# Altium footprint library Rich Footprints.PcbLib: 155 footprints (part 6 of 10)
Each footprint in its own frame and in the unit in brackets; x right, y up, seen from the top. Pads: shape width x height; smd on the part's side, far side on the other; paste and mask are expansions set on the pad; w line width, h text height; cw(c..) or ccw(c..) is an arc to the next point about the centre after c.
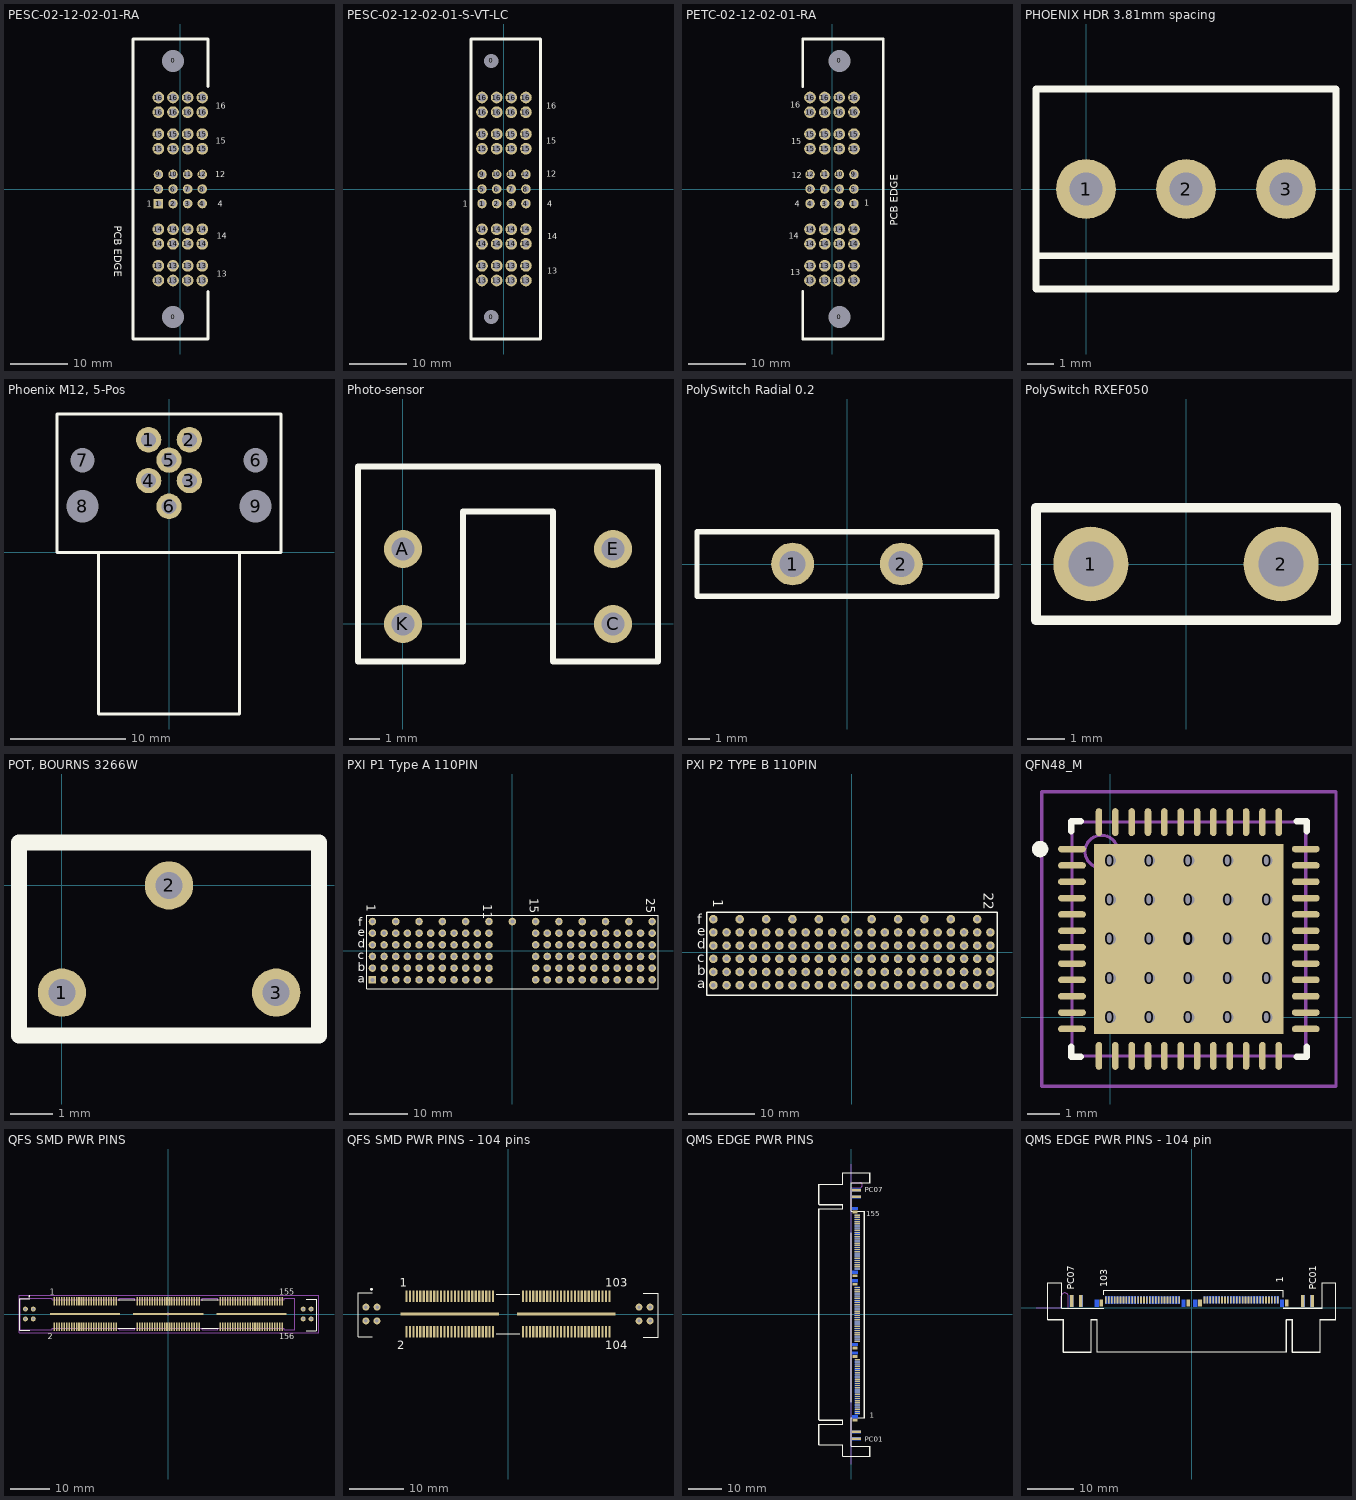
[diagram p5: the footprints below, top view; thin cyan lines are the x and y axes]

## PESC-02-12-02-01-RA [mil] "Samtec Female Sockets, PWR(4), Signal(12), Right Angle"
height 492.13
pads (46):
  round 59.06 hole 150 unplated: 0(-50,-875) 0(-50,875)
  rect 65x65 hole 40: 1(-150,-100)
  round 65 hole 40: 2(-50,-100) 3(50,-100) 4(150,-100) 5(-150,0) 6(-50,0) 7(50,0) 8(150,0) 9(-150,100) 10(-50,100) 11(50,100) 12(150,100)
  round 80 hole 52: 13(-150,-625) 13(-150,-525) 13(-50,-625) 13(-50,-525) 13(50,-625) 13(50,-525) 13(150,-625) 13(150,-525) 14(-150,-375) 14(-150,-275) 14(-50,-375) 14(-50,-275) 14(50,-375) 14(50,-275) 14(150,-375) 14(150,-275) 15(-150,275) 15(-150,375) 15(-50,275) 15(-50,375) 15(50,275) 15(50,375) 15(150,275) 15(150,375) 16(-150,525) 16(-150,625) 16(-50,525) 16(-50,625) 16(50,525) 16(50,625) 16(150,525) 16(150,625)
Top Overlay:
  lines w20: 188,-700 188,-1025 -324,-1025 -324,0 -324,1025 188,1025 188,700
  text "PCB EDGE" at -450,-250 h50
  text "1" at -230,-120 h40
  text "13" at 248,-600 h40
  text "16" at 241,550 h40
  text "4" at 255,-120 h40
  text "12" at 240,80 h40
  text "14" at 248,-340 h40
  text "15" at 241,310 h40

## PESC-02-12-02-01-S-VT-LC [mil] "SAMTEC FEM SOCKETS, PWR(4), SIGNAL(12), VERT MOUNT"
height 497.64
pads (46):
  round 59.06 hole 98 unplated: 0(-87,-875) 0(-87,875)
  round 65 hole 40: 1(-150,-100) 2(-50,-100) 3(50,-100) 4(150,-100) 5(-150,0) 6(-50,0) 7(50,0) 8(150,0) 9(-150,100) 10(-50,100) 11(50,100) 12(150,100)
  round 80 hole 52: 13(-150,-625) 13(-150,-525) 13(-50,-625) 13(-50,-525) 13(50,-625) 13(50,-525) 13(150,-625) 13(150,-525) 14(-150,-375) 14(-150,-275) 14(-50,-375) 14(-50,-275) 14(50,-375) 14(50,-275) 14(150,-375) 14(150,-275) 15(-150,275) 15(-150,375) 15(-50,275) 15(-50,375) 15(50,275) 15(50,375) 15(150,275) 15(150,375) 16(-150,525) 16(-150,625) 16(-50,525) 16(-50,625) 16(50,525) 16(50,625) 16(150,525) 16(150,625)
Top Overlay:
  lines w20: -225,-1025 250,-1025 250,1025 -225,1025 -225,0 -225,-1025
  text "16" at 290,550 h40
  text "1" at -280,-120 h40
  text "13" at 295,-580 h40
  text "4" at 295,-120 h40
  text "12" at 290,85 h40
  text "14" at 295,-345 h40
  text "15" at 290,310 h40

## PETC-02-12-02-01-RA [mil] "Samtec Male Pins, PWR(4), Signal(12), Right Angle"
height 492.13
pads (46):
  round 59.06 hole 150 unplated: 0(50,-875) 0(50,875)
  round 65 hole 40: 1(150,-100) 2(50,-100) 3(-50,-100) 4(-150,-100) 5(150,0) 6(50,0) 7(-50,0) 8(-150,0) 9(150,100) 10(50,100) 11(-50,100) 12(-150,100)
  round 80 hole 52: 13(-150,-625) 13(-150,-525) 13(-50,-625) 13(-50,-525) 13(50,-625) 13(50,-525) 13(150,-625) 13(150,-525) 14(-150,-375) 14(-150,-275) 14(-50,-375) 14(-50,-275) 14(50,-375) 14(50,-275) 14(150,-375) 14(150,-275) 15(-150,275) 15(-150,375) 15(-50,275) 15(-50,375) 15(50,275) 15(50,375) 15(150,275) 15(150,375) 16(-150,525) 16(-150,625) 16(-50,525) 16(-50,625) 16(50,525) 16(50,625) 16(150,525) 16(150,625)
Top Overlay:
  lines w20: -200,-700 -200,-1025 350,-1025 350,0 350,1025 -200,1025 -200,700
  text "1" at 220,-115 h40
  text "PCB EDGE" at 450,-250 h50
  text "13" at -285,-590 h40
  text "16" at -285,555 h40
  text "4" at -255,-120 h40
  text "12" at -275,75 h40
  text "14" at -295,-340 h40
  text "15" at -280,305 h40

## PHOENIX HDR 3.81mm spacing [mil]
pads (3):
  round 90 hole 50: 1(0,0) 2(150,0) 3(300,0)
Top Overlay:
  lines w9.84: -75,-100 375,-100 ; -75,-150 -75,0 -75,150 375,150 375,-150 -75,-150

## Phoenix M12, 5-Pos [mm] "PCB Mount Phoenix p/n 1534630"
pads (10):
  round 2.2 hole 1.3: 1(-1.767,9.767) 2(1.767,9.767) 3(1.767,6.232) 4(-1.767,6.232) 5(0,8) 6(0,4)
  round 2 hole 2.1 unplated: 6(7.5,8) 7(-7.5,8)
  round 2 hole 2.8 unplated: 8(-7.5,4) 9(7.5,4)
Top Overlay:
  lines w0.254: -6.1,0 -6.1,-14 6.1,-14 6.1,0 ; -9.7,0 -9.7,12 -0.6,12 9.7,12 9.7,0 0,0 -9.7,0

## Photo-sensor [mm] "Omron EE-SX1046"
pads (4):
  round 1.27 hole 0.762: A(0,2.5) C(7,0) E(7,2.5) K(0,0)
Top Overlay:
  lines w0.2: -1.5,-1.25 -1.5,5.25 8.5,5.25 8.5,-1.25 7,-1.25 5,-1.25 5,3.75 2,3.75 2,-1.25 -1.5,-1.25

## PolySwitch Radial 0.2 [mm] "PolySwitch footprint"
height 19
pads (2):
  round 2 hole 1.2: 1(-2.54,0) 2(2.54,0)
Top Overlay:
  lines w0.254: -7,-1.5 -7,1.5 0,1.5 7,1.5 7,-1.5 -7,-1.5

## PolySwitch RXEF050 [mm] "PolySwitch footprint"
height 19
pads (2):
  round 2 hole 1.2: 1(-2.54,0) 2(2.54,0)
Top Overlay:
  lines w0.254: -4,-1.5 -4,1.5 0,1.5 4,1.5 4,-1.5 -4,-1.5

## POT, BOURNS 3266W [mil]
pads (3):
  round 45 hole 25: 1(0,-100) 2(100,0) 3(200,-100)
Top Overlay:
  lines w15: -40,-140 -40,40 -30,40 240,40 240,-140 -40,-140

## PXI P1 Type A 110PIN [mm] "Connector; CompactPCI; 110 Position; Right Angle"
height 8.13
pads (123):
  rect 1.3x1.3 hole 0.7: A1(-24,-5)
  round 1.3 hole 0.7: A2(-22,-5) A3(-20,-5) A4(-18,-5) A5(-16,-5) A6(-14,-5) A7(-12,-5) A8(-10,-5) A9(-8,-5) A10(-6,-5) A11(-4,-5) A15(4,-5) A16(6,-5) A17(8,-5) A18(10,-5) A19(12,-5) A20(14,-5) A21(16,-5) A22(18,-5) A23(20,-5) A24(22,-5) A25(24,-5) B1(-24,-3) B2(-22,-3) B3(-20,-3) B4(-18,-3) B5(-16,-3) B6(-14,-3) B7(-12,-3) B8(-10,-3) B9(-8,-3) B10(-6,-3) B11(-4,-3) B15(4,-3) B16(6,-3) B17(8,-3) B18(10,-3) B19(12,-3) B20(14,-3) B21(16,-3) B22(18,-3) B23(20,-3) B24(22,-3) B25(24,-3) C1(-24,-1) C2(-22,-1) C3(-20,-1) C4(-18,-1) C5(-16,-1) C6(-14,-1) C7(-12,-1) C8(-10,-1) C9(-8,-1) C10(-6,-1) C11(-4,-1) C15(4,-1) C16(6,-1) C17(8,-1) C18(10,-1) C19(12,-1) C20(14,-1) C21(16,-1) C22(18,-1) C23(20,-1) C24(22,-1) C25(24,-1) D1(-24,1) D2(-22,1) D3(-20,1) D4(-18,1) D5(-16,1) D6(-14,1) D7(-12,1) D8(-10,1) D9(-8,1) D10(-6,1) D11(-4,1) D15(4,1) D16(6,1) D17(8,1) D18(10,1) D19(12,1) D20(14,1) D21(16,1) D22(18,1) D23(20,1) D24(22,1) D25(24,1) E1(-24,3) E2(-22,3) E3(-20,3) E4(-18,3) E5(-16,3) E6(-14,3) E7(-12,3) E8(-10,3) E9(-8,3) E10(-6,3) E11(-4,3) E15(4,3) E16(6,3) E17(8,3) E18(10,3) E19(12,3) E20(14,3) E21(16,3) E22(18,3) E23(20,3) E24(22,3) E25(24,3) F1(-24,5) F3(-20,5) F5(-16,5) F7(-12,5) F9(-8,5) F11(-4,5) F13(0,5) F15(4,5) F17(8,5) F19(12,5) F21(16,5) F23(20,5) F25(24,5)
Top Overlay:
  lines w0.2: -25,-6.5 -25,6.1 25,6.1 25,-6.5 -25,-6.5
  text "11" at -5,8 h1.5
  text "1" at -25,8 h1.5
  text "f" at -26.475,4.225 h1.5
  text "a" at -26.475,-5.5 h1.5
  text "b" at -26.475,-3.5 h1.5
  text "c" at -26.475,-1.5 h1.5
  text "d" at -26.475,0.5 h1.5
  text "e" at -26.475,2.5 h1.5
  text "15" at 3,9 h1.5
  text "25" at 23,9 h1.5

## PXI P2 TYPE B 110PIN [mm] "Connector; CompactPCI; 110 Position; Right Angle"
height 8.13
pads (121):
  round 1.3 hole 0.7: A1(-21,-5) A2(-19,-5) A3(-17,-5) A4(-15,-5) A5(-13,-5) A6(-11,-5) A7(-9,-5) A8(-7,-5) A9(-5,-5) A10(-3,-5) A11(-1,-5) A12(1,-5) A13(3,-5) A14(5,-5) A15(7,-5) A16(9,-5) A17(11,-5) A18(13,-5) A19(15,-5) A20(17,-5) A21(19,-5) A22(21,-5) B1(-21,-3) B2(-19,-3) B3(-17,-3) B4(-15,-3) B5(-13,-3) B6(-11,-3) B7(-9,-3) B8(-7,-3) B9(-5,-3) B10(-3,-3) B11(-1,-3) B12(1,-3) B13(3,-3) B14(5,-3) B15(7,-3) B16(9,-3) B17(11,-3) B18(13,-3) B19(15,-3) B20(17,-3) B21(19,-3) B22(21,-3) C1(-21,-1) C2(-19,-1) C3(-17,-1) C4(-15,-1) C5(-13,-1) C6(-11,-1) C7(-9,-1) C8(-7,-1) C9(-5,-1) C10(-3,-1) C11(-1,-1) C12(1,-1) C13(3,-1) C14(5,-1) C15(7,-1) C16(9,-1) C17(11,-1) C18(13,-1) C19(15,-1) C20(17,-1) C21(19,-1) C22(21,-1) D1(-21,1) D2(-19,1) D3(-17,1) D4(-15,1) D5(-13,1) D6(-11,1) D7(-9,1) D8(-7,1) D9(-5,1) D10(-3,1) D11(-1,1) D12(1,1) D13(3,1) D14(5,1) D15(7,1) D16(9,1) D17(11,1) D18(13,1) D19(15,1) D20(17,1) D21(19,1) D22(21,1) E1(-21,3) E2(-19,3) E3(-17,3) E4(-15,3) E5(-13,3) E6(-11,3) E7(-9,3) E8(-7,3) E9(-5,3) E10(-3,3) E11(-1,3) E12(1,3) E13(3,3) E14(5,3) E15(7,3) E16(9,3) E17(11,3) E18(13,3) E19(15,3) E20(17,3) E21(19,3) E22(21,3) F1(-21,5) F3(-17,5) F5(-13,5) F7(-9,5) F9(-5,5) F11(-1,5) F13(3,5) F15(7,5) F17(11,5) F19(15,5) F21(19,5)
Top Overlay:
  lines w0.2: -22,-6.5 -22,6.05 22,6.05 22,-6.5 -22,-6.5
  text "f" at -23.475,4.225 h1.5
  text "a" at -23.475,-5.5 h1.5
  text "b" at -23.475,-3.5 h1.5
  text "c" at -23.475,-1.5 h1.5
  text "d" at -23.475,0.5 h1.5
  text "e" at -23.475,2.5 h1.5
  text "22" at 20,9 h1.5
  text "1" at -21,8 h1.5

## QFN48_M [mm] "QFN, 48-Leads, Body 7x7mm, Pitch 0.5mm, IPC Low Density"
height 0.9
pads (74):
  round 0.66 hole 0.33 mask+0: 0(0,0)
  round 0.66 hole 0.33: 0(0,1.2) 0(0,3.6) 0(0,4.8) 0(1.2,0) 0(1.2,1.2) 0(1.2,2.4) 0(1.2,4.8) 0(2.4,0) 0(2.4,1.2) 0(2.4,2.4) 0(2.4,3.6) 0(2.4,4.8) 0(3.6,0) 0(3.6,1.2) 0(3.6,2.4) 0(3.6,3.6) 0(3.6,4.8) 0(4.8,0) 0(4.8,1.2) 0(4.8,2.4) 0(4.8,3.6) 0(4.8,4.8)
  round 0.66 hole 0.33 paste+0 mask+0: 0(0,2.4) 0(1.2,3.6)
  rect 5.8x5.8 smd: 0(2.4,2.4)
  oval 0.85x0.2 smd: 1(-1.175,5.15) 2(-1.175,4.65) 3(-1.175,4.15) 4(-1.175,3.65) 5(-1.175,3.15) 6(-1.175,2.65) 7(-1.175,2.15) 8(-1.175,1.65) 9(-1.175,1.15) 10(-1.175,0.65) 11(-1.175,0.15) 12(-1.175,-0.35) 25(5.975,-0.35) 26(5.975,0.15) 27(5.975,0.65) 28(5.975,1.15) 29(5.975,1.65) 30(5.975,2.15) 31(5.975,2.65) 32(5.975,3.15) 33(5.975,3.65) 34(5.975,4.15) 35(5.975,4.65) 36(5.975,5.15)
  oval 0.2x0.85 smd: 13(-0.35,-1.175) 14(0.15,-1.175) 15(0.65,-1.175) 16(1.15,-1.175) 17(1.65,-1.175) 18(2.15,-1.175) 19(2.65,-1.175) 20(3.15,-1.175) 21(3.65,-1.175) 22(4.15,-1.175) 23(4.65,-1.175) 24(5.15,-1.175) 37(5.15,5.975) 38(4.65,5.975) 39(4.15,5.975) 40(3.65,5.975) 41(3.15,5.975) 42(2.65,5.975) 43(2.15,5.975) 44(1.65,5.975) 45(1.15,5.975) 46(0.65,5.975) 47(0.15,5.975) 48(-0.35,5.975)
Top Overlay:
  circle w0.25: c-2.15,5.15 r0.125
  lines w0.2: -1.2,-0.9 -1.2,-1.2 -0.9,-1.2 ; -1.2,5.7 -1.2,6 -0.9,6 ; 5.7,-1.2 6,-1.2 6,-0.9 ; 5.7,6 6,6 6,5.7
Mechanical 13:
  circle w0.1: c-0.275,5.075 r0.5
  lines w0.1: -1.175,-1.175 -1.175,5.975 5.975,5.975 5.975,-1.175 -1.175,-1.175
Mechanical 15:
  lines w0.1: 1.9,2.4 2.9,2.4 ; 2.4,1.9 2.4,2.9 ; -2.1,-2.1 -2.1,6.9 6.9,6.9 6.9,-2.1 -2.1,-2.1
3D body: height 0.9, standoff 0, extent -1.175,-1.175 5.975,5.975

## QFS SMD PWR PINS [mm] "78 pos (156 pin) + 8 pwr pins"
height 7.06
pads (167):
  rect 0.4x2.15 smd: 1(-29.28,3.24) 2(-29.28,-3.24) 3(-28.645,3.24) 4(-28.645,-3.24) 5(-28.01,3.24) 6(-28.01,-3.24) 7(-27.375,3.24) 8(-27.375,-3.24) 9(-26.74,3.24) 10(-26.74,-3.24) 11(-26.105,3.24) 12(-26.105,-3.24) 13(-25.47,3.24) 14(-25.47,-3.24) 15(-24.835,3.24) 16(-24.835,-3.24) 17(-24.2,3.24) 18(-24.2,-3.24) 19(-23.565,3.24) 20(-23.565,-3.24) 21(-22.93,3.24) 22(-22.93,-3.24) 23(-22.295,3.24) 24(-22.295,-3.24) 25(-21.66,3.24) 26(-21.66,-3.24) 27(-21.025,3.24) 28(-21.025,-3.24) 29(-20.39,3.24) 30(-20.39,-3.24) 31(-19.755,3.24) 32(-19.755,-3.24) 33(-19.12,3.24) 34(-19.12,-3.24) 35(-18.485,3.24) 36(-18.485,-3.24) 37(-17.85,3.24) 38(-17.85,-3.24) 39(-17.215,3.24) 40(-17.215,-3.24) 41(-16.58,3.24) 42(-16.58,-3.24) 43(-15.945,3.24) 44(-15.945,-3.24) 45(-15.31,3.24) 46(-15.31,-3.24) 47(-14.675,3.24) 48(-14.675,-3.24) 49(-14.04,3.24) 50(-14.04,-3.24) 51(-13.405,3.24) 52(-13.405,-3.24) 53(-7.94,3.24) 54(-7.94,-3.24) 55(-7.305,3.24) 56(-7.305,-3.24) 57(-6.67,3.24) 58(-6.67,-3.24) 59(-6.035,3.24) 60(-6.035,-3.24) 61(-5.4,3.24) 62(-5.4,-3.24) 63(-4.765,3.24) 64(-4.765,-3.24) 65(-4.13,3.24) 66(-4.13,-3.24) 67(-3.495,3.24) 68(-3.495,-3.24) 69(-2.86,3.24) 70(-2.86,-3.24) 71(-2.225,3.24) 72(-2.225,-3.24) 73(-1.59,3.24) 74(-1.59,-3.24) 75(-0.955,3.24) 76(-0.955,-3.24) 77(-0.32,3.24) 78(-0.32,-3.24) 79(0.315,3.24) 80(0.315,-3.24) 81(0.95,3.24) 82(0.95,-3.24) 83(1.585,3.24) 84(1.585,-3.24) 85(2.22,3.24) 86(2.22,-3.24) 87(2.855,3.24) 88(2.855,-3.24) 89(3.49,3.24) 90(3.49,-3.24) 91(4.125,3.24) 92(4.125,-3.24) 93(4.76,3.24) 94(4.76,-3.24) 95(5.395,3.24) 96(5.395,-3.24) 97(6.03,3.24) 98(6.03,-3.24) 99(6.665,3.24) 100(6.665,-3.24) 101(7.3,3.24) 102(7.3,-3.24) 103(7.935,3.24) 104(7.935,-3.24) 105(13.4,3.24) 106(13.4,-3.24) 107(14.035,3.24) 108(14.035,-3.24) 109(14.67,3.24) 110(14.67,-3.24) 111(15.305,3.24) 112(15.305,-3.24) 113(15.94,3.24) 114(15.94,-3.24) 115(16.575,3.24) 116(16.575,-3.24) 117(17.21,3.24) 118(17.21,-3.24) 119(17.845,3.24) 120(17.845,-3.24) 121(18.48,3.24) 122(18.48,-3.24) 123(19.115,3.24) 124(19.115,-3.24) 125(19.75,3.24) 126(19.75,-3.24) 127(20.385,3.24) 128(20.385,-3.24) 129(21.02,3.24) 130(21.02,-3.24) 131(21.655,3.24) 132(21.655,-3.24) 133(22.29,3.24) 134(22.29,-3.24) 135(22.925,3.24) 136(22.925,-3.24) 137(23.56,3.24) 138(23.56,-3.24) 139(24.195,3.24) 140(24.195,-3.24) 141(24.83,3.24) 142(24.83,-3.24) 143(25.465,3.24) 144(25.465,-3.24) 145(26.1,3.24) 146(26.1,-3.24) 147(26.735,3.24) 148(26.735,-3.24) 149(27.37,3.24) 150(27.37,-3.24) 151(28.005,3.24) 152(28.005,-3.24) 153(28.64,3.24) 154(28.64,-3.24) 155(29.275,3.24) 156(29.275,-3.24)
  rect 18x0.5 smd: 157(-21.34,0) 158(0,0) 159(21.34,0)
  round 1.27 hole 0.635 mask+0: PC01(-36.703,1.27) PC02(-36.703,-1.27) PC03(-34.671,1.27) PC04(-34.684,-1.27) PC05(34.671,1.27) PC06(34.671,-1.27) PC07(36.703,1.27) PC08(36.703,-1.27)
Top Overlay:
  circle w0.25: c-35.71,4.521 r0.125
  lines w0.2: -38.16,3.937 -35.56,3.937 ; -38.135,3.92 -38.135,1.895 -38.135,-2.155 -38.135,-4.18 -35.535,-4.18 ; -12.8,-3.65 -8.55,-3.65 ; -12.8,3.65 -8.55,3.65 ; 8.5,3.65 12.8,3.65 ; 8.55,-3.65 12.8,-3.65 ; 35.449,3.835 38.049,3.835 ; 35.475,-4.267 38.075,-4.267 ; 38.151,-4.315 38.151,3.785
  text "1" at -30.5,5 h1.52
  text "2" at -31,-6.5 h1.52
  text "156" at 28.5,-6.5 h1.52
  text "155" at 28.5,5 h1.52
Mechanical 12:
  lines w0.001: -38.075,-4.05 -29.75,-4.05 -29.75,-3.65 -12.65,-3.65 -12.65,-4.05 -8.65,-4.05 -8.65,-3.65 8.7,-3.65 8.7,-4.05 12.7,-4.05 12.7,-3.65 29.75,-3.65 29.75,-4.05 32.5,-4.05 32.5,4.05 29.75,4.05 29.75,3.65 12.7,3.65 12.7,4.05 8.7,4.05 8.7,3.65 -8.65,3.65 -8.65,4.05 -12.65,4.05 -12.65,3.65 -29.75,3.65 -29.75,4.05 -38.075,4.05 -38.075,-4.05
Mechanical 15:
  lines w0.05: -0.5,0 0.5,0 ; 0,-0.5 0,0.5 ; -38.354,-4.85 38.735,-4.85 38.735,4.8 -38.354,4.8 -38.354,-4.85

## QFS SMD PWR PINS - 104 pins [mm] "52 pos (104pin) + 8 pwr pins"
height 7.06
pads (114):
  rect 0.4x2.15 smd: 1(-18.612,3.24) 2(-18.612,-3.24) 3(-17.977,3.24) 4(-17.977,-3.24) 5(-17.342,3.24) 6(-17.342,-3.24) 7(-16.707,3.24) 8(-16.707,-3.24) 9(-16.072,3.24) 10(-16.072,-3.24) 11(-15.437,3.24) 12(-15.437,-3.24) 13(-14.802,3.24) 14(-14.802,-3.24) 15(-14.167,3.24) 16(-14.167,-3.24) 17(-13.532,3.24) 18(-13.532,-3.24) 19(-12.897,3.24) 20(-12.897,-3.24) 21(-12.262,3.24) 22(-12.262,-3.24) 23(-11.627,3.24) 24(-11.627,-3.24) 25(-10.992,3.24) 26(-10.992,-3.24) 27(-10.357,3.24) 28(-10.357,-3.24) 29(-9.722,3.24) 30(-9.722,-3.24) 31(-9.087,3.24) 32(-9.087,-3.24) 33(-8.452,3.24) 34(-8.452,-3.24) 35(-7.817,3.24) 36(-7.817,-3.24) 37(-7.182,3.24) 38(-7.182,-3.24) 39(-6.547,3.24) 40(-6.547,-3.24) 41(-5.912,3.24) 42(-5.912,-3.24) 43(-5.277,3.24) 44(-5.277,-3.24) 45(-4.642,3.24) 46(-4.642,-3.24) 47(-4.007,3.24) 48(-4.007,-3.24) 49(-3.372,3.24) 50(-3.372,-3.24) 51(-2.737,3.24) 52(-2.737,-3.24) 53(2.728,3.24) 54(2.728,-3.24) 55(3.363,3.24) 56(3.363,-3.24) 57(3.998,3.24) 58(3.998,-3.24) 59(4.633,3.24) 60(4.633,-3.24) 61(5.268,3.24) 62(5.268,-3.24) 63(5.903,3.24) 64(5.903,-3.24) 65(6.538,3.24) 66(6.538,-3.24) 67(7.173,3.24) 68(7.173,-3.24) 69(7.808,3.24) 70(7.808,-3.24) 71(8.443,3.24) 72(8.443,-3.24) 73(9.078,3.24) 74(9.078,-3.24) 75(9.713,3.24) 76(9.713,-3.24) 77(10.348,3.24) 78(10.348,-3.24) 79(10.983,3.24) 80(10.983,-3.24) 81(11.618,3.24) 82(11.618,-3.24) 83(12.253,3.24) 84(12.253,-3.24) 85(12.888,3.24) 86(12.888,-3.24) 87(13.523,3.24) 88(13.523,-3.24) 89(14.158,3.24) 90(14.158,-3.24) 91(14.793,3.24) 92(14.793,-3.24) 93(15.428,3.24) 94(15.428,-3.24) 95(16.063,3.24) 96(16.063,-3.24) 97(16.698,3.24) 98(16.698,-3.24) 99(17.333,3.24) 100(17.333,-3.24) 101(17.968,3.24) 102(17.968,-3.24) 103(18.603,3.24) 104(18.603,-3.24)
  rect 18x0.5 smd: 105(-10.672,0) 106(10.668,0)
  round 1.27 hole 0.635 mask+0: PC01(-26.035,1.27) PC02(-26.035,-1.27) PC03(-24.003,1.27) PC04(-24.016,-1.27) PC05(24.003,1.27) PC06(24.003,-1.27) PC07(26.035,1.27) PC08(26.035,-1.27)
Top Overlay:
  circle w0.25: c-25.042,4.521 r0.125
  lines w0.2: -27.492,3.937 -24.892,3.937 ; -27.467,3.92 -27.467,1.895 -27.467,-2.155 -27.467,-4.18 -24.867,-4.18 ; -2.132,-3.65 2.118,-3.65 ; -2.132,3.65 2.118,3.65 ; 24.781,3.835 27.381,3.835 ; 24.807,-4.267 27.407,-4.267 ; 27.483,-4.315 27.483,3.785
  text "103" at 17.832,5 h1.52
  text "104" at 17.832,-6.5 h1.52
  text "2" at -20.332,-6.5 h1.52
  text "1" at -19.832,5 h1.52

## QMS EDGE PWR PINS [mil] "78 pos (156 pin) + 8 pwr pins"
height 277.95
pads (176):
  rect 60x14 smd: 1(69.15,-1152.45) 3(69.15,-1127.45) 5(69.15,-1102.45) 7(69.15,-1077.45) 9(69.15,-1052.45) 11(69.15,-1027.45) 13(69.15,-1002.45) 15(69.15,-977.45) 17(69.15,-952.45) 19(69.15,-927.45) 21(69.15,-902.45) 23(69.15,-877.45) 25(69.15,-852.45) 27(69.15,-827.45) 29(69.15,-802.45) 31(69.15,-777.45) 33(69.15,-752.45) 35(69.15,-727.45) 37(69.15,-702.45) 39(69.15,-677.45) 41(69.15,-652.45) 43(69.15,-627.45) 45(69.15,-602.45) 47(69.15,-577.45) 49(69.15,-552.45) 51(69.15,-527.45) 53(68.09,-312.11) 55(68.09,-287.11) 57(68.09,-262.11) 59(68.09,-237.11) 61(68.09,-212.11) 63(68.09,-187.11) 65(68.09,-162.11) 67(68.09,-137.11) 69(68.09,-112.11) 71(68.09,-87.11) 73(68.09,-62.11) 75(68.09,-37.11) 77(68.09,-12.11) 79(68.09,12.89) 81(68.09,37.89) 83(68.09,62.89) 85(68.09,87.89) 87(68.09,112.89) 89(68.09,137.89) 91(68.09,162.89) 93(68.09,187.89) 95(68.09,212.89) 97(68.09,237.89) 99(68.09,262.89) 101(68.09,287.89) 103(68.09,312.89) 105(68.09,528.05) 107(68.09,553.05) 109(68.09,578.05) 111(68.09,603.05) 113(68.09,628.05) 115(68.09,653.05) 117(68.09,678.05) 119(68.09,703.05) 121(68.09,728.05) 123(68.09,753.05) 125(68.09,778.05) 127(68.09,803.05) 129(68.09,828.05) 131(68.09,853.05) 133(68.09,878.05) 135(68.09,903.05) 137(68.09,928.05) 139(68.09,953.05) 141(68.09,978.05) 143(68.09,1003.05) 145(68.09,1028.05) 147(68.09,1053.05) 149(68.09,1078.05) 151(68.09,1103.05) 153(68.09,1128.05) 155(68.09,1153.05)
  rect 60x14 smd far side: 2(69.15,-1152.45) 4(69.15,-1127.45) 6(69.15,-1102.45) 8(69.15,-1077.45) 10(69.15,-1052.45) 12(69.15,-1027.45) 14(69.15,-1002.45) 16(69.15,-977.45) 18(69.15,-952.45) 20(69.15,-927.45) 22(69.15,-902.45) 24(69.15,-877.45) 26(69.15,-852.45) 28(69.15,-827.45) 30(69.15,-802.45) 32(69.15,-777.45) 34(69.15,-752.45) 36(69.15,-727.45) 38(69.15,-702.45) 40(69.15,-677.45) 42(69.15,-652.45) 44(69.15,-627.45) 46(69.15,-602.45) 48(69.15,-577.45) 50(69.15,-552.45) 52(69.15,-527.45) 54(68.09,-312.11) 56(68.09,-287.11) 58(68.09,-262.11) 60(68.09,-237.11) 62(68.09,-212.11) 64(68.09,-187.11) 66(68.09,-162.11) 68(68.09,-137.11) 70(68.09,-112.11) 72(68.09,-87.11) 74(68.09,-62.11) 76(68.09,-37.11) 78(68.09,-12.11) 80(68.09,12.89) 82(68.09,37.89) 84(68.09,62.89) 86(68.09,87.89) 88(68.09,112.89) 90(68.09,137.89) 92(68.09,162.89) 94(68.09,187.89) 96(68.09,212.89) 98(68.09,237.89) 100(68.09,262.89) 102(68.09,287.89) 104(68.09,312.89) 106(68.09,528.05) 108(68.09,553.05) 110(68.09,578.05) 112(68.09,603.05) 114(68.09,628.05) 116(68.09,653.05) 118(68.09,678.05) 120(68.09,703.05) 122(68.09,728.05) 124(68.09,753.05) 126(68.09,778.05) 128(68.09,803.05) 130(68.09,828.05) 132(68.09,853.05) 134(68.09,878.05) 136(68.09,903.05) 138(68.09,928.05) 140(68.09,953.05) 142(68.09,978.05) 144(68.09,1003.05) 146(68.09,1028.05) 148(68.09,1053.05) 150(68.09,1078.05) 152(68.09,1103.05) 154(68.09,1128.05) 156(68.09,1153.05)
  rect 60x31 smd: 157(41.09,-1229.45) 159(41.09,-489.45) 161(41.09,-389.45) 163(41.09,350.55) 165(41.09,450.55) 167(41.09,1190.55)
  rect 60x31 smd far side: 158(41.09,-1189.45) 160(41.09,-449.45) 162(41.09,-349.45) 164(41.09,390.55) 166(41.09,490.55) 168(41.09,1230.55)
  rect 100x30 smd: PC01(59.65,-1444.45) PC03(59.65,-1365.55) PC05(59.15,1365.55) PC07(59.15,1444.45)
  rect 100x30 smd far side: PC02(59.65,-1444.45) PC04(59.65,-1365.55) PC06(59.15,1365.55) PC08(59.15,1444.45)
Top Overlay:
  lines w10: -377.4,-45.12 -377.4,1226.54 -101.81,1226.54 -101.81,1277.72 -377.4,1277.72 -377.4,1513.94 -101.81,1513.94 -101.81,1647.8 213.15,1647.8 213.15,1529.69 -3.39,1529.69 -3.39,1198.98 150.16,1198.98 150.16,-45.12 ; -377.4,45.43 -377.4,-1226.22 -101.81,-1226.22 -101.81,-1277.4 -377.4,-1277.4 -377.4,-1513.62 -101.81,-1513.62 -101.81,-1647.48 213.15,-1647.48 213.15,-1529.37 -3.39,-1529.37 -3.39,-1198.66 150.16,-1198.66 150.16,45.43 ; -373.46,-46.18 -373.46,1225.47 -97.87,1225.47 -97.87,1276.65 -373.46,1276.65 -373.46,1512.87 -97.87,1512.87 -97.87,1646.73 217.09,1646.73 217.09,1528.62 0.55,1528.62 0.55,1197.91 154.09,1197.91 154.09,-46.18 ; -373.46,44.37 -373.46,-1227.28 -97.87,-1227.28 -97.87,-1278.46 -373.46,-1278.46 -373.46,-1514.68 -97.87,-1514.68 -97.87,-1648.54 217.09,-1648.54 217.09,-1530.43 0.55,-1530.43 0.55,-1199.72 154.09,-1199.72 154.09,44.37 ; 0.55,-1018.62 0.55,949.88
  text "1" at 215.12,-1200 h60
  text "155" at 175.12,1140 h60
  text "PC01" at 155.12,-1480 h60
  text "PC07" at 155.12,1420 h60
Mechanical 13:
  lines w10: 0,-1738.19 0,-1164.52 0,1472.44 0.81,1473.25 98.43,1473.25 ccw(c98.43,1502.78) 98.43,1532.31 0,1532.31 0,1748.03

## QMS EDGE PWR PINS - 104 pin [mil] "52 pos (104 pin) + 8 pwr pins"
height 277.95
pads (120):
  rect 14x60 smd: 1(732.45,69.15) 3(707.45,69.15) 5(682.45,69.15) 7(657.45,69.15) 9(632.45,69.15) 11(607.45,69.15) 13(582.45,69.15) 15(557.45,69.15) 17(532.45,69.15) 19(507.45,69.15) 21(482.45,69.15) 23(457.45,69.15) 25(432.45,69.15) 27(407.45,69.15) 29(382.45,69.15) 31(357.45,69.15) 33(332.45,69.15) 35(307.45,69.15) 37(282.45,69.15) 39(257.45,69.15) 41(232.45,69.15) 43(207.45,69.15) 45(182.45,69.15) 47(157.45,69.15) 49(132.45,69.15) 51(107.45,69.15) 53(-107.89,68.09) 55(-132.89,68.09) 57(-157.89,68.09) 59(-182.89,68.09) 61(-207.89,68.09) 63(-232.89,68.09) 65(-257.89,68.09) 67(-282.89,68.09) 69(-307.89,68.09) 71(-332.89,68.09) 73(-357.89,68.09) 75(-382.89,68.09) 77(-407.89,68.09) 79(-432.89,68.09) 81(-457.89,68.09) 83(-482.89,68.09) 85(-507.89,68.09) 87(-532.89,68.09) 89(-557.89,68.09) 91(-582.89,68.09) 93(-607.89,68.09) 95(-632.89,68.09) 97(-657.89,68.09) 99(-682.89,68.09) 101(-707.89,68.09) 103(-732.89,68.09)
  rect 14x60 smd far side: 2(732.45,69.15) 4(707.45,69.15) 6(682.45,69.15) 8(657.45,69.15) 10(632.45,69.15) 12(607.45,69.15) 14(582.45,69.15) 16(557.45,69.15) 18(532.45,69.15) 20(507.45,69.15) 22(482.45,69.15) 24(457.45,69.15) 26(432.45,69.15) 28(407.45,69.15) 30(382.45,69.15) 32(357.45,69.15) 34(332.45,69.15) 36(307.45,69.15) 38(282.45,69.15) 40(257.45,69.15) 42(232.45,69.15) 44(207.45,69.15) 46(182.45,69.15) 48(157.45,69.15) 50(132.45,69.15) 52(107.45,69.15) 54(-107.89,68.09) 56(-132.89,68.09) 58(-157.89,68.09) 60(-182.89,68.09) 62(-207.89,68.09) 64(-232.89,68.09) 66(-257.89,68.09) 68(-282.89,68.09) 70(-307.89,68.09) 72(-332.89,68.09) 74(-357.89,68.09) 76(-382.89,68.09) 78(-407.89,68.09) 80(-432.89,68.09) 82(-457.89,68.09) 84(-482.89,68.09) 86(-507.89,68.09) 88(-532.89,68.09) 90(-557.89,68.09) 92(-582.89,68.09) 94(-607.89,68.09) 96(-632.89,68.09) 98(-657.89,68.09) 100(-682.89,68.09) 102(-707.89,68.09) 104(-732.89,68.09)
  rect 31x60 smd: 105(809.45,41.09) 107(69.45,41.09) 109(-30.55,41.09) 111(-770.55,41.09)
  rect 31x60 smd far side: 106(769.45,41.09) 108(29.45,41.09) 110(-70.55,41.09) 112(-810.55,41.09)
  rect 30x100 smd: PC01(1024.45,59.65) PC03(945.55,59.65) PC05(-945.55,59.15) PC07(-1024.45,59.15)
  rect 30x100 smd far side: PC02(1024.45,59.65) PC04(945.55,59.65) PC06(-945.55,59.15) PC08(-1024.45,59.15)
Top Overlay:
  lines w10: -1109.69,-3.39 -1109.69,213.15 -1227.8,213.15 -1227.8,-101.81 -1093.94,-101.81 -1093.94,-377.4 -857.72,-377.4 -857.72,-101.81 -806.54,-101.81 -806.54,-377.4 ; -1109,-4 -750.38,-4 ; -1108.62,0.55 -1108.62,217.09 -1226.73,217.09 -1226.73,-97.87 -1092.87,-97.87 -1092.87,-373.46 -856.65,-373.46 -856.65,-97.87 -805.47,-97.87 -805.47,-373.46 ; -806.54,-373.46 807.28,-373.46 807.28,-97.87 858.46,-97.87 858.46,-373.46 1094.68,-373.46 1094.68,-97.87 1228.54,-97.87 1228.54,217.09 1110.43,217.09 1110.43,0.55 779.72,0.55 ; -750,115 -750,150.16 778.66,150.16 778,92 ; 778.66,-3.39 1109.37,-3.39 1109.37,213.15 1227.48,213.15 1227.48,-101.81 1093.62,-101.81 1093.62,-377.4 857.4,-377.4 857.4,-101.81 806.22,-101.81 806.22,-377.4
  text "1" at 780,215.12 h60
  text "103" at -720,175.12 h60
  text "PC01" at 1060,155.12 h60
  text "PC07" at -1000,155.12 h60
Mechanical 13:
  lines w10: -1328.03,0 -1112.31,0 -1112.31,98.43 cw(c-1082.78,98.43) -1053.25,98.43 -1053.25,0